# Altium footprint library PcbLib1.PcbLib: 15 footprints
Each footprint in its own frame and in the unit in brackets; x right, y up, seen from the top. Pads: shape width x height; smd on the part's side, far side on the other; paste and mask are expansions set on the pad; w line width, h text height; cw(c..) or ccw(c..) is an arc to the next point about the centre after c.
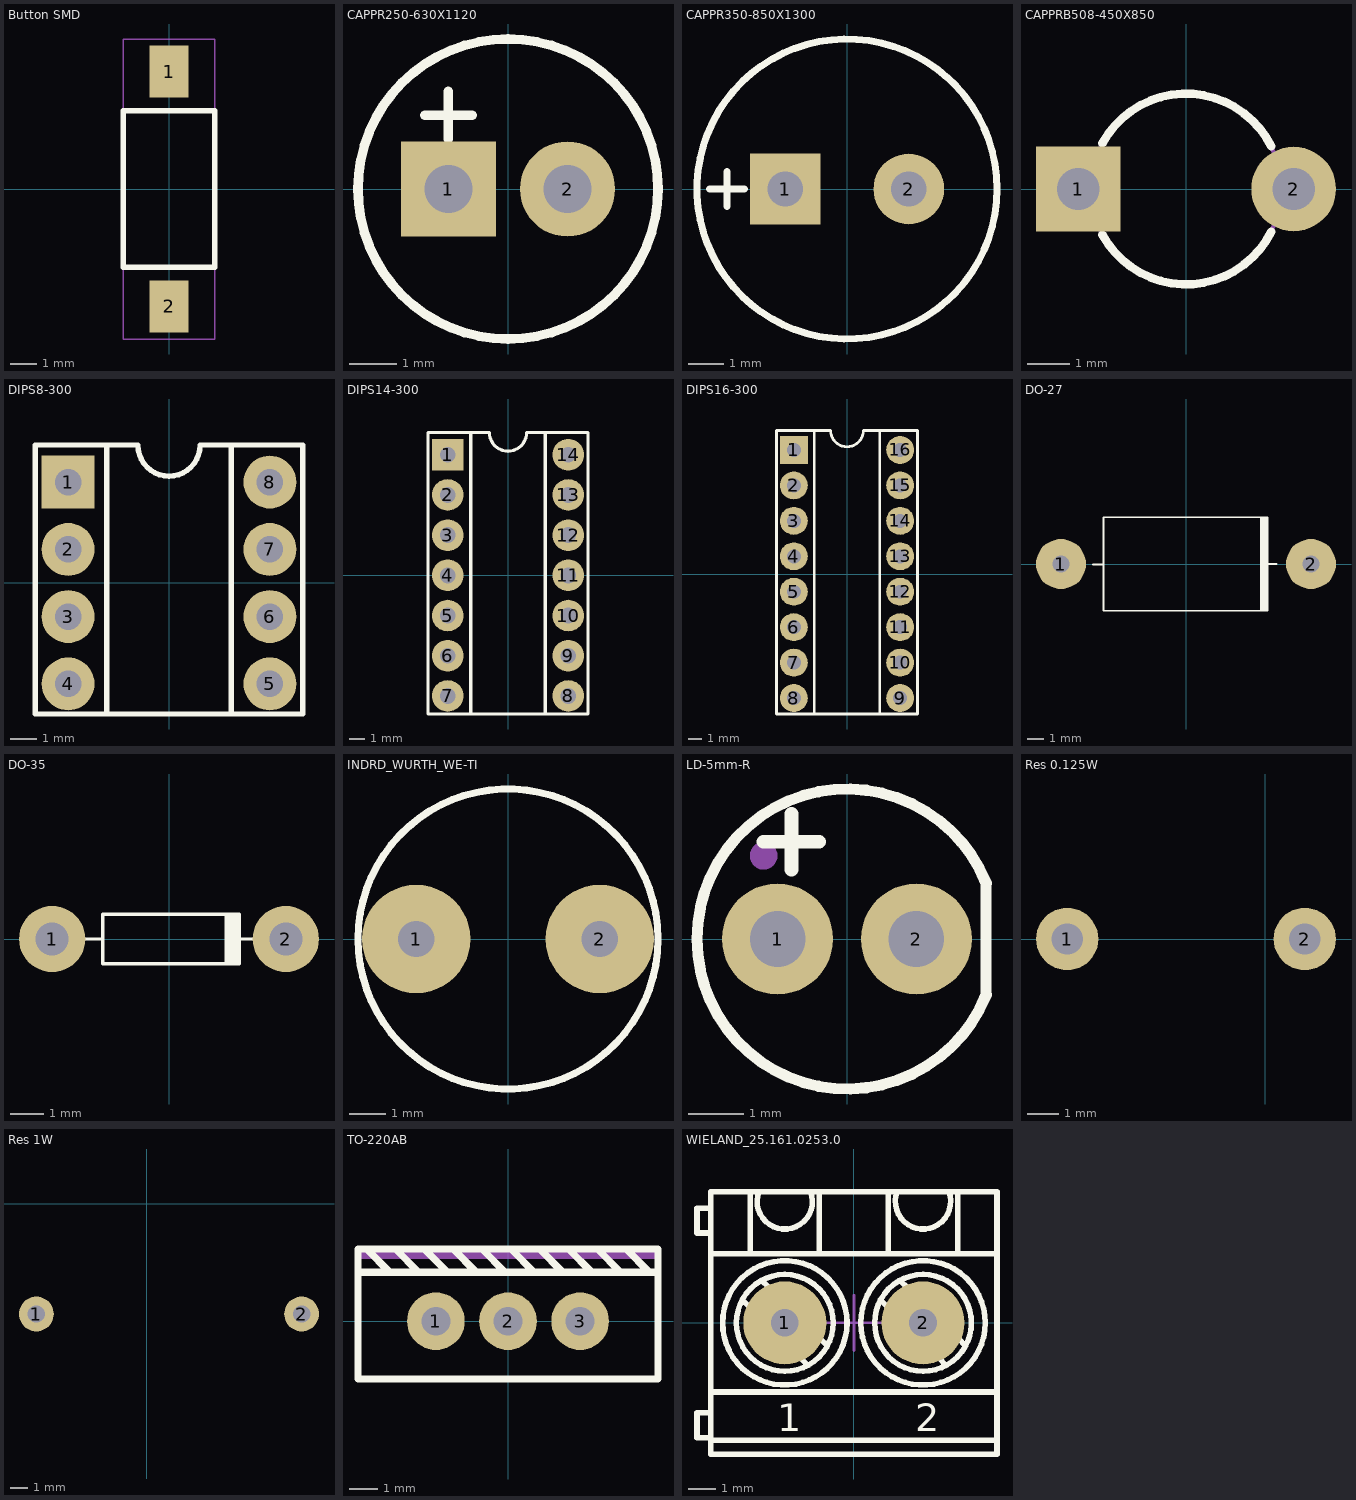
[diagram p0: the footprints below, top view; thin cyan lines are the x and y axes]

## Button SMD [mm]
pads (2):
  rect 1.5x2 smd: 1(0,4.5) 2(0,-4.5)
Top Overlay:
  lines w0.2: -1.75,-3 1.75,-3 1.75,3 -1.75,3 -1.75,-3
Mechanical 7:
  lines w0.05: -1.75,-5.75 1.75,-5.75 1.75,5.75 -1.75,5.75 -1.75,-5.75
Mechanical 13:
  lines w0.1: -1.75,-3 -1.75,3 1.75,3 1.75,-3 -1.75,-3
3D body "User Library-TL3302BF180QC.step": height 5.01, standoff 0.01, extent -1.75,-5.2 1.75,5.2

## CAPPR250-630X1120 [mm] "Capacitor, Radial, Pin spacing 2.5mm - Body Diameter 6.3mm X Body Height 11.2mm"
height 11.2
pads (2):
  rect 2x2 hole 1: 1(-1.25,0)
  round 2 hole 1: 2(1.25,0)
Top Overlay:
  circle w0.2: c0,0 r3.15
  lines w0.2: -1.75,1.55 -0.75,1.55 ; -1.25,1.05 -1.25,2.05
Mechanical 13:
  circle w0.1: c0,0 r3.15
Mechanical 14:
  circle w0.1: c0,0 r3.15
  lines w0.1: -1.75,1.55 -0.75,1.55 ; -1.25,1.05 -1.25,2.05
3D body "CAPPR250-630X1120.stp": height 11.2, standoff -3.6, extent -3.159,-3.159 3.141,3.107

## CAPPR350-850X1300 [mm] "Capacitor, Radial, Pin spacing 3.5mm - Body Diameter 8.5mm x Body Height 13mm"
height 13
pads (2):
  rect 2x2 hole 1: 1(-1.75,0)
  round 2 hole 1: 2(1.75,0)
Top Overlay:
  circle w0.2: c0,0 r4.25
  lines w0.2: -3.9,0 -2.9,0 ; -3.4,-0.5 -3.4,0.5
Mechanical 14:
  circle w0.1: c0,0 r4.25
  lines w0.1: -3.9,0 -2.9,0 ; -3.4,-0.5 -3.4,0.5
3D body "CAPPR350-850X1300.stp": height 13, standoff -3.6, extent -4.25,-4.246 4.25,4.246

## CAPPRB508-450X850 [mm] "Capacitor, Polarized Radial Bead, Pin spacing 5.08mm - Body Diameter 4.5mm X Body Height 8.5mm"
height 8.5
pads (2):
  rect 2x2 hole 1: 1(-2.54,0)
  round 2 hole 1: 2(2.54,0)
Top Overlay:
  lines w0.2: -1.976,-1.076 ccw(c0,0) 2.012,-1.006 ; -1.976,1.076 cw(c0,0) 2.012,1.006
Mechanical 14:
  circle w0.1: c0,0 r2.25
3D body "CAPPRB508-450X850.stp": height 8.97, standoff -2.91, extent -2.79,-2.246 2.79,2.246

## DIPS8-300 [mm] "DIP Socket 8 Leads, Row Spacing 7.62 mm; Pitch 2.54 mm"
height 4.2
pads (8):
  rect 2x2 hole 1: 1(-3.81,3.81)
  round 2 hole 1: 2(-3.81,1.27) 3(-3.81,-1.27) 4(-3.81,-3.81) 5(3.81,-3.81) 6(3.81,-1.27) 7(3.81,1.27) 8(3.81,3.81)
Top Overlay:
  lines w0.2: -2.35,-4.95 -2.35,5.21 ; 2.35,-4.95 2.35,5.21 ; -5.05,-4.95 5.05,-4.95 5.05,5.21 1.175,5.21 cw(c0,5.21) -1.175,5.21 -5.05,5.21 -5.05,-4.95
3D body "dip-8.step": height 4.2, standoff -2, extent -3.96,-5.1 3.96,5.1

## DIPS14-300 [mm] "DIP  Socket 14 Leads, Row Spacing 7.62 mm; Pitch 2.54 mm"
height 4.2
pads (14):
  rect 2x2 hole 1: 1(-3.81,7.62)
  round 2 hole 1: 2(-3.81,5.08) 3(-3.81,2.54) 4(-3.81,0) 5(-3.81,-2.54) 6(-3.81,-5.08) 7(-3.81,-7.62) 8(3.81,-7.62) 9(3.81,-5.08) 10(3.81,-2.54) 11(3.81,0) 12(3.81,2.54) 13(3.81,5.08) 14(3.81,7.62)
Top Overlay:
  lines w0.2: -2.35,-8.76 -2.35,9.02 ; 2.35,-8.76 2.35,9.02 ; -5.05,-8.76 5.05,-8.76 5.05,9.02 1.175,9.02 cw(c0,9.02) -1.175,9.02 -5.05,9.02 -5.05,-8.76
Mechanical 14:
  lines w0.1: -2.35,-8.76 -2.35,9.02 ; 2.35,-8.76 2.35,9.02 ; -5.05,-8.76 5.05,-8.76 5.05,9.02 1.175,9.02 cw(c0,9.02) -1.175,9.02 -5.05,9.02 -5.05,-8.76
3D body "dip-14.step": height 3.4, standoff -2, extent -3.96,-9.65 3.96,9.65

## DIPS16-300 [mm] "DIP Socket 16 Leads, Row Spacing 7.62 mm; Pitch 2.54 mm"
height 4.2
pads (16):
  rect 2x2 hole 1: 1(-3.81,8.89)
  round 2 hole 1: 2(-3.81,6.35) 3(-3.81,3.81) 4(-3.81,1.27) 5(-3.81,-1.27) 6(-3.81,-3.81) 7(-3.81,-6.35) 8(-3.81,-8.89) 9(3.81,-8.89) 10(3.81,-6.35) 11(3.81,-3.81) 12(3.81,-1.27) 13(3.81,1.27) 14(3.81,3.81) 15(3.81,6.35) 16(3.81,8.89)
Top Overlay:
  lines w0.2: -2.35,-10.03 -2.35,10.29 ; 2.35,-10.03 2.35,10.29 ; -5.05,-10.03 -5.05,10.29 -1.175,10.29 ccw(c0,10.29) 1.175,10.29 5.05,10.29 5.05,-10.03 -5.05,-10.03
3D body "dip-16.step": height 3.4, standoff -2, extent -3.96,-10.25 3.96,10.25

## DO-27 [mm]
pads (2):
  round 3 hole 1: 1(-7.5,0) 2(7.5,0)
Top Overlay:
  rectangle: 4.425,-2.8 4.875,2.775
  lines w0.1: -5.6,-0.025 -4.95,-0.025 ; 4.9,0 5.45,0 ; -4.95,-2.8 -4.95,2.8 4.9,2.8 4.9,-2.8 -4.95,-2.8
3D body "DO-27-lay.STP": height 5.59, standoff -2.5, extent -8.15,-2.805 8.15,2.805

## DO-35 [mm]
pads (2):
  round 2 hole 1: 1(-3.525,0) 2(3.525,0)
Top Overlay:
  rectangle: 1.675,-0.8 2.125,0.75
  lines w0.1: -2.65,0 -2,0 ; 2.125,0 2.675,0 ; -2,-0.75 -2,0.75 2.125,0.75 2.125,-0.75 -2,-0.75
3D body "DO35_7mm-pitch.step": height 3.01, standoff -2, extent -3.726,-0.756 3.724,0.764

## INDRD_WURTH_WE-TI [mm] "Radial Leaded Wire Wound Inductor D=8.3mm"
height 10
pads (2):
  round 3 hole 1: 1(-2.54,0) 2(2.54,0)
Top Overlay:
  circle w0.2: c0,0 r4.15
Mechanical 14:
  circle w0.1: c0,0 r4.15
3D body "INDRD_WURTH_WE-TI.stp": height 10, standoff -3.6, extent -4.65,-4.65 4.65,4.65

## LD-5mm-R [mm] "5mm DIP Red Led Footprint"
height 10
pads (2):
  round 2 hole 1: 1(-1.25,0) 2(1.25,0)
Top Overlay:
  lines w0.2: 2.5,-1 2.5,1 ; 2.507,-1.003 cw(c0,0) 2.507,1.003
  lines w0.25: -1.5,1.75 -0.5,1.75 ; -1,1.25 -1,2.25
Mechanical 13:
  circle w0.25: c-1.5,1.5 r0.125
  lines w0.1: 2.5,-1 2.5,1 ; 2.507,-1.003 cw(c0,0) 2.507,1.003
3D body "SW3dPS-LEDd5R.STEP": height 13.31, standoff -1.49, extent -2.98,-3.01 2.44,3.01

## Res 0.125W [mm]
pads (2):
  round 2 hole 1: 1(-6.35,0) 2(1.27,0)
3D body "RESAD762W50L340D190.STEP": height 2.45, standoff -1.95, extent -6.6,-0.95 1.52,0.95

## Res 1W [mm]
pads (2):
  round 2 hole 1: 1(-6.35,-6.35) 2(8.89,-6.35)
3D body "RESAD1524W80L1150D450.STEP": height 5.25, standoff -1.75, extent -6.75,-8.6 9.29,-4.1

## TO-220AB [mm] "КТ-28-2"
height 15
pads (3):
  round 2 hole 1: 1(-2.5,0) 2(0,0) 3(2.5,0)
Top Overlay:
  lines w0.25: -5.2,1.7 5.2,1.7 ; -4.9,2.5 -4.1,1.7 ; -3.9,2.5 -3.1,1.7 ; -2.9,2.5 -2.1,1.7 ; -1.9,2.5 -1.1,1.7 ; -0.9,2.5 -0.1,1.7 ; 0.1,2.5 0.9,1.7 ; 1.1,2.5 1.9,1.7 ; 2.1,2.5 2.9,1.7 ; 3.1,2.5 3.9,1.7 ; 4.1,2.5 4.9,1.7 ; -5.2,-2 -5.2,2.5 5.2,2.5 5.2,-2 -5.2,-2
Mechanical 13:
  lines w0.1: -5.2,2.2 5.2,2.2 ; -5.2,2.3 5.2,2.3 ; -5.2,2.4 5.2,2.4 ; -5.2,-2 5.2,-2 5.2,2.5 -5.2,2.5 -5.2,-2
3D body "User Library-TO-220-4.STEP": height 26.06, standoff -2.74, extent -5.1,-1.9 5.1,2.6

## WIELAND_25.161.0253.0 [mm] "Terminal Block, Pitch 5mm, 2 Positions, Screw Connection"
height 15
pads (2):
  round 3 hole 1: 1(-2.5,0) 2(2.5,0)
Top Overlay:
  circle w0.2: c-2.5,0 r1.75
  circle w0.2: c-2.5,0 r2.25
  circle w0.2: c2.5,0 r1.75
  circle w0.2: c2.5,0 r2.25
  lines w0.2: -5.175,-4.25 5.175,-4.25 ; -5.175,-4.15 -5.675,-4.15 -5.675,-3.25 -5.175,-3.25 ; -5.175,-2.5 5.175,-2.5 ; -5.175,2.5 5.175,2.5 ; -5.175,3.25 -5.675,3.25 -5.675,4.15 -5.175,4.15 ; -4.039,0.832 -3.778,0.571 ; -3.75,2.5 -3.75,4.75 ; -3.433,4.75 ccw(c-2.5,4.391) -1.567,4.75 ; -3.332,1.539 -3.071,1.278 ; -1.929,-1.278 -1.668,-1.539 ; -1.25,2.5 -1.25,4.75 ; -1.222,-0.571 -0.961,-0.832 ; 0.961,0.832 1.222,0.571 ; 1.25,2.5 1.25,4.75 ; 1.567,4.75 ccw(c2.5,4.391) 3.433,4.75 ; 1.668,1.539 1.929,1.278 ; 3.071,-1.278 3.332,-1.539 ; 3.75,2.5 3.75,4.75 ; 3.778,-0.571 4.039,-0.832 ; -5.175,-4.75 -5.175,4.75 5.175,4.75 5.175,-4.75 -5.175,-4.75
  text "1" at -2.78,-3.922 h1
  text "2" at 2.219,-3.922 h1
Mechanical 8:
  lines w0.1: -3.5,0 -2.5,0 ; -2.5,-1 -2.5,0 ; -2.5,1 -2.5,0 ; -1.5,0 -2.5,0 ; -1,0 0,0 ; 0,-1 0,0 ; 0,1 0,0 ; 1,0 0,0 ; 1.5,0 2.5,0 ; 2.5,-1 2.5,0 ; 2.5,1 2.5,0 ; 3.5,0 2.5,0
Mechanical 14:
  circle w0.1: c-2.5,0 r2.25
  circle w0.1: c2.5,0 r2.25
  circle w0.1: c-2.5,0 r1.75
  circle w0.1: c2.5,0 r1.75
  lines w0.1: -5.175,-4.25 5.175,-4.25 ; -5.175,-4.15 -5.675,-4.15 -5.675,-3.25 -5.175,-3.25 ; -5.175,-2.5 5.175,-2.5 ; -5.175,2.5 5.175,2.5 ; -5.175,3.25 -5.675,3.25 -5.675,4.15 -5.175,4.15 ; -4.039,0.832 -1.668,-1.539 ; -3.75,2.5 -3.75,4.75 ; -3.433,4.75 ccw(c-2.5,4.391) -1.567,4.75 ; -3.332,1.539 -0.961,-0.832 ; -1.25,2.5 -1.25,4.75 ; 0.961,0.832 3.332,-1.539 ; 1.25,2.5 1.25,4.75 ; 1.567,4.75 ccw(c2.5,4.391) 3.433,4.75 ; 1.668,1.539 4.039,-0.832 ; 3.75,2.5 3.75,4.75 ; -5.175,-4.75 -5.175,4.75 5.175,4.75 5.175,-4.75 -5.175,-4.75
  text "2" at 2.219,-3.922 h1
  text "1" at -2.78,-3.922 h1
3D body "WIELAND_25.161.0253.0.stp": height 15, standoff -3.4, extent -5.675,-4.75 5.175,4.75